# Altium schematic symbol library Pad Cap Touch 20mm.Schlib: 1 symbol
Pins are listed as number, name and electrical type; pins without a type are passive.

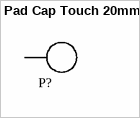
[diagram p0: symbol Pad Cap Touch 20mm]

## Pad Cap Touch 20mm
designator P?, comment Pad  (value not drawn)  (no BOM)
Test Pad
footprint Pad Cap Touch
pins: 1